# Altium footprint library HAKATAYA.PcbLib: 227 footprints (part 9 of 15)
Each footprint in its own frame and in the unit in brackets; x right, y up, seen from the top. Pads: shape width x height; smd on the part's side, far side on the other; paste and mask are expansions set on the pad; w line width, h text height; cw(c..) or ccw(c..) is an arc to the next point about the centre after c.
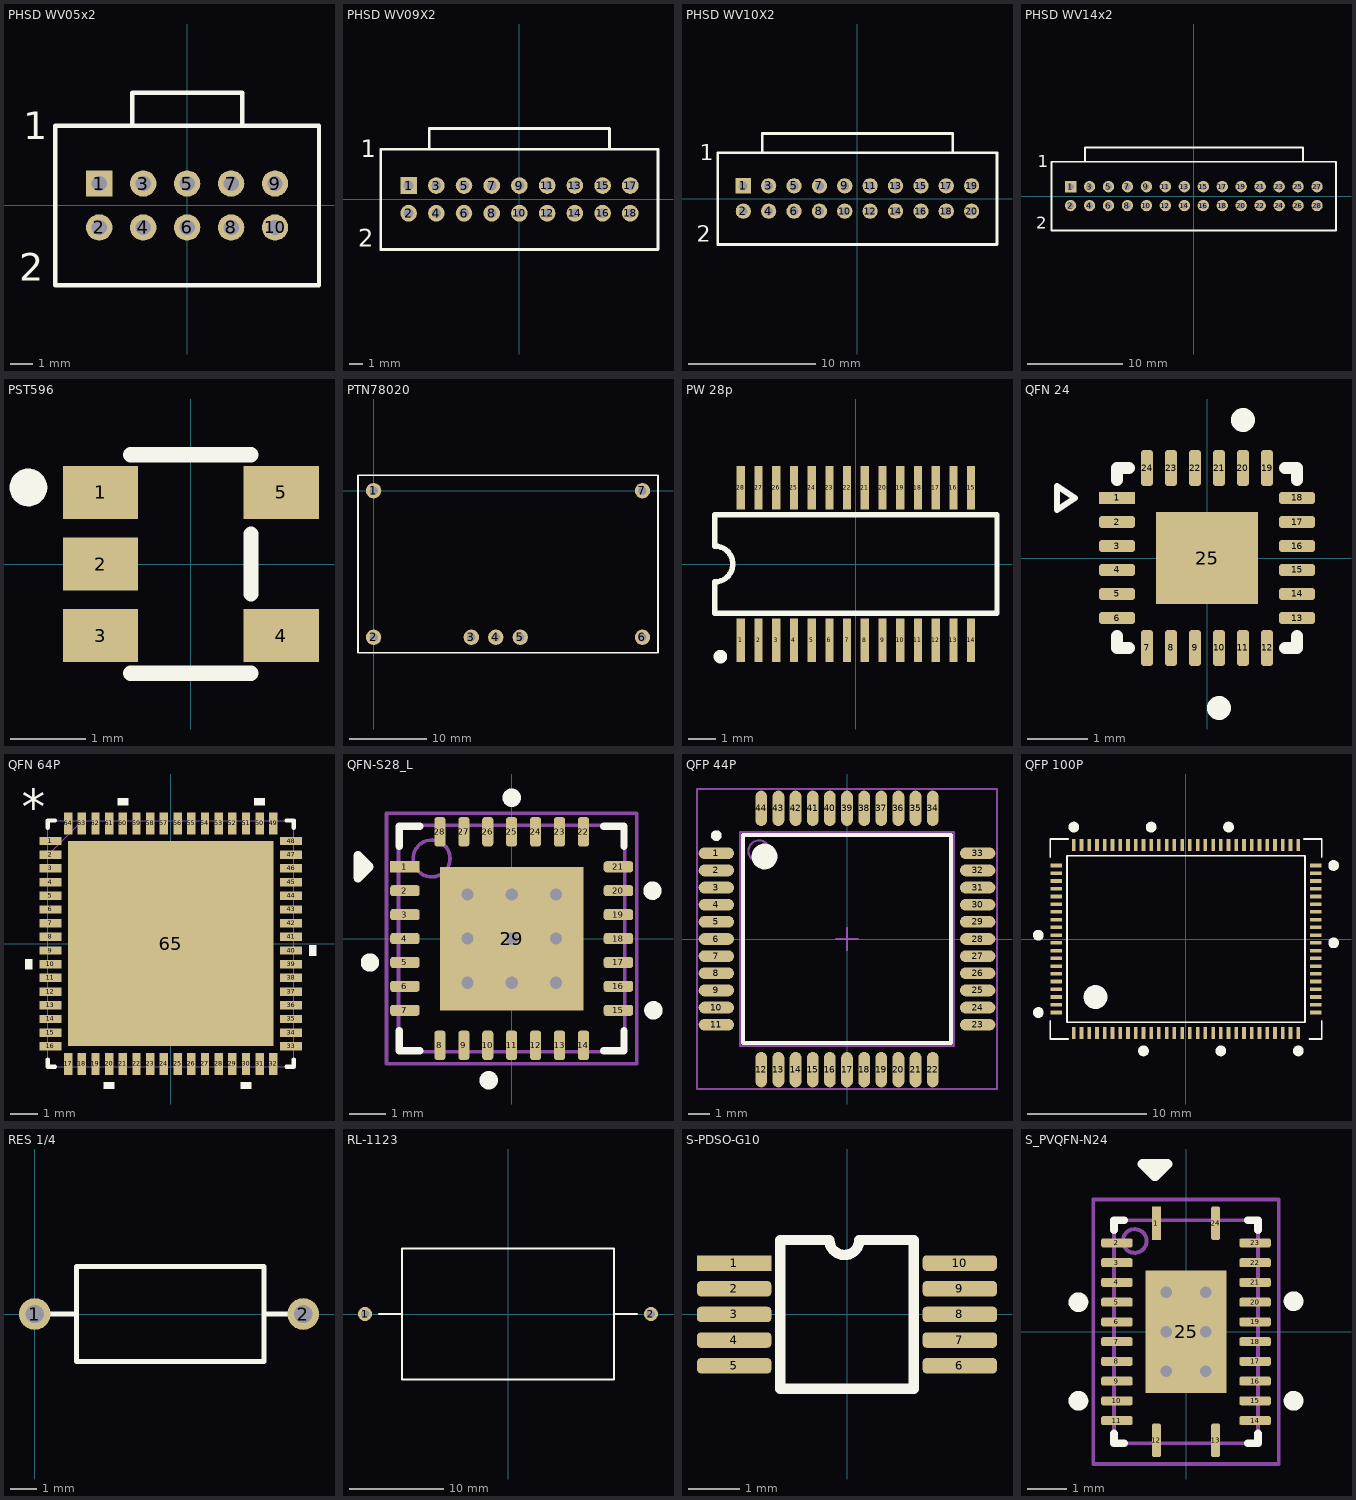
[diagram p8: the footprints below, top view; thin cyan lines are the x and y axes]

## PHSD WV05x2 [mm] "YOLINK PHSD CONNECTOR A2006-WVxxX2 2.00mm"
height 7.6
pads (10):
  rect 1.2x1.2 hole 0.7: 1(-4,1)
  round 1.2 hole 0.7: 2(-4,-1) 3(-2,1) 4(-2,-1) 5(0,1) 6(0,-1) 7(2,1) 8(2,-1) 9(4,1) 10(4,-1)
Top Overlay:
  lines w0.2: -2.5,3.625 -2.5,5.125 2.5,5.125 2.5,3.625 ; -6,-3.625 -6,3.625 6,3.625 6,-3.625 -6,-3.625
  text "2" at -7.65,-3.425 h1.27
  text "1" at -7.45,3.025 h1.27

## PHSD WV09X2 [mm] "YOLINK PHSD CONNECTOR A2006-WVxxX2 2.00mm"
height 7.6
pads (18):
  rect 1.2x1.2 hole 0.7: 1(-8,1)
  round 1.2 hole 0.7: 2(-8,-1) 3(-6,1) 4(-6,-1) 5(-4,1) 6(-4,-1) 7(-2,1) 8(-2,-1) 9(0,1) 10(0,-1) 11(2,1) 12(2,-1) 13(4,1) 14(4,-1) 15(6,1) 16(6,-1) 17(8,1) 18(8,-1)
Top Overlay:
  lines w0.2: -6.5,3.625 -6.5,5.125 6.5,5.125 6.5,3.625 ; -10,-3.625 -10,3.625 10,3.625 10,-3.625 -10,-3.625
  text "2" at -11.65,-3.425 h1.27
  text "1" at -11.45,3.025 h1.27

## PHSD WV10X2 [mm] "YOLINK PHSD CONNECTOR A2006-WVxxX2 2.00mm"
height 7.6
pads (20):
  rect 1.2x1.2 hole 0.7: 1(-9,1)
  round 1.2 hole 0.7: 2(-9,-1) 3(-7,1) 4(-7,-1) 5(-5,1) 6(-5,-1) 7(-3,1) 8(-3,-1) 9(-1,1) 10(-1,-1) 11(1,1) 12(1,-1) 13(3,1) 14(3,-1) 15(5,1) 16(5,-1) 17(7,1) 18(7,-1) 19(9,1) 20(9,-1)
Top Overlay:
  lines w0.2: -7.5,3.625 -7.5,5.125 7.5,5.125 7.5,3.625 ; -11,-3.625 -11,3.625 11,3.625 11,-3.625 -11,-3.625
  text "2" at -12.65,-3.425 h1.27
  text "1" at -12.45,3.025 h1.27

## PHSD WV14x2 [mm] "YOLINK PHSD CONNECTOR A2006-WVxxX2 2.00mm"
height 7.6
pads (28):
  rect 1.2x1.2 hole 0.7: 1(-13,1)
  round 1.2 hole 0.7: 2(-13,-1) 3(-11,1) 4(-11,-1) 5(-9,1) 6(-9,-1) 7(-7,1) 8(-7,-1) 9(-5,1) 10(-5,-1) 11(-3,1) 12(-3,-1) 13(-1,1) 14(-1,-1) 15(1,1) 16(1,-1) 17(3,1) 18(3,-1) 19(5,1) 20(5,-1) 21(7,1) 22(7,-1) 23(9,1) 24(9,-1) 25(11,1) 26(11,-1) 27(13,1) 28(13,-1)
Top Overlay:
  lines w0.2: -11.5,3.625 -11.5,5.125 11.5,5.125 11.5,3.625 ; -15,-3.625 15,-3.625 15,3.625 -15,3.625 -15,-3.625
  text "1" at -16.45,3.025 h1.27
  text "2" at -16.65,-3.425 h1.27

## PST596 [mm] "MISUMI RESET IC"
height 1.15
pads (5):
  rect 1x0.7 smd: 1(-1.2,0.95) 2(-1.2,0) 3(-1.2,-0.95) 4(1.2,-0.95) 5(1.2,0.95)
Top Overlay:
  circle w0.25: c-2.157,1.016 r0.125
  lines w0.2: -0.8,-1.45 0.8,-1.45 ; -0.8,1.45 0.8,1.45 ; 0.8,-0.4 0.8,0.4

## PTN78020 [mm] "REGURATOR Ti PTN78020W"
height 9
pads (7):
  round 2 hole 1.1: 1(0,0) 2(0,-19.05) 3(12.7,-19.05) 4(15.88,-19.05) 5(19.06,-19.05) 6(34.94,-19.05) 7(34.94,0)
Top Overlay:
  lines w0.2: -2.03,-21.08 36.96,-21.08 36.96,2.03 -2.03,2.03 -2.03,-21.08

## PW 28p [mm] "pitch 0.65mm TI"
pads (28):
  rect 0.3x1.6 smd: 1(-4.225,-2.8) 2(-3.575,-2.8) 3(-2.925,-2.8) 4(-2.275,-2.8) 5(-1.625,-2.8) 6(-0.975,-2.8) 7(-0.325,-2.8) 8(0.325,-2.8) 9(0.975,-2.8) 10(1.625,-2.8) 11(2.275,-2.8) 12(2.925,-2.8) 13(3.575,-2.8) 14(4.225,-2.8) 15(4.225,2.8) 16(3.575,2.8) 17(2.925,2.8) 18(2.275,2.8) 19(1.625,2.8) 20(0.975,2.8) 21(0.325,2.8) 22(-0.325,2.8) 23(-0.975,2.8) 24(-1.625,2.8) 25(-2.275,2.8) 26(-2.925,2.8) 27(-3.575,2.8) 28(-4.225,2.8)
Top Overlay:
  circle w0.25: c-4.975,-3.4 r0.125
  lines w0.2: -5.175,-1.8 5.175,-1.8 5.175,1.8 -5.175,1.8 -5.175,0.658 cw(c-5.175,0) -5.175,-0.658 -5.175,-1.8

## QFN 24 [mm] "pitch 0.4mm"
pads (25):
  rect 0.6x0.2 smd: 1(-1.5,1)
  rrect50% 0.6x0.2 smd: 2(-1.5,0.6) 3(-1.5,0.2) 4(-1.5,-0.2) 5(-1.5,-0.6) 6(-1.5,-1) 13(1.5,-1) 14(1.5,-0.6) 15(1.5,-0.2) 16(1.5,0.2) 17(1.5,0.6) 18(1.5,1)
  rrect50% 0.2x0.6 smd: 7(-1,-1.5) 8(-0.6,-1.5) 9(-0.2,-1.5) 10(0.2,-1.5) 11(0.6,-1.5) 12(1,-1.5) 19(1,1.5) 20(0.6,1.5) 21(0.2,1.5) 22(-0.2,1.5) 23(-0.6,1.5) 24(-1,1.5)
  rect 1.7x1.54 smd: 25(0,0)
Top Overlay:
  circle w0.2: c0.2,-2.5 r0.1
  circle w0.2: c0.6,2.3 r0.1
  lines w0.1: -2.5,0.8 -2.2,1 -2.5,1.2 -2.5,0.8
  lines w0.2: -1.5,-1.3 -1.5,-1.5 -1.3,-1.5 ; -1.5,1.3 -1.5,1.5 -1.3,1.5 ; 1.3,-1.5 1.5,-1.5 1.5,-1.3 ; 1.3,1.5 1.5,1.5 1.5,1.3

## QFN 64P [mil] "9x9x1 mm, pitch0.5mm"
height 39.37
pads (65):
  rect 32x12 smd mask+5: 1(-173,147.64) 2(-173,127.95) 3(-173,108.27) 4(-173,88.58) 5(-173,68.9) 6(-173,49.21) 7(-173,29.53) 8(-173,9.84) 9(-173,-9.84) 10(-173,-29.53) 11(-173,-49.21) 12(-173,-68.9) 13(-173,-88.58) 14(-173,-108.27) 15(-173,-127.95) 16(-173,-147.64) 33(173,-147.64) 34(173,-127.95) 35(173,-108.27) 36(173,-88.58) 37(173,-68.9) 38(173,-49.21) 39(173,-29.53) 40(173,-9.84) 41(173,9.84) 42(173,29.53) 43(173,49.21) 44(173,68.9) 45(173,88.58) 46(173,108.27) 47(173,127.95) 48(173,147.64)
  rect 12x32 smd mask+5: 17(-147.64,-173) 18(-127.95,-173) 19(-108.27,-173) 20(-88.58,-173) 21(-68.9,-173) 22(-49.21,-173) 23(-29.53,-173) 24(-9.84,-173) 25(9.84,-173) 26(29.53,-173) 27(49.21,-173) 28(68.9,-173) 29(88.58,-173) 30(108.27,-173) 31(127.95,-173) 32(147.64,-173) 49(147.64,173) 50(127.95,173) 51(108.27,173) 52(88.58,173) 53(68.9,173) 54(49.21,173) 55(29.53,173) 56(9.84,173) 57(-9.84,173) 58(-29.53,173) 59(-49.21,173) 60(-68.9,173) 61(-88.58,173) 62(-108.27,173) 63(-127.95,173) 64(-147.64,173)
  rect 295x295 smd mask-147: 65(0,0)
Top Overlay:
  region: -61.4,199 -76.4,199 -76.4,209 -61.4,209
  region: 135.45,199 120.45,199 120.45,209 135.45,209
  region: 199,-2.34 209,-2.34 209,-17.34 199,-17.34
  region: 115.77,-199 100.77,-199 100.77,-209 115.77,-209
  region: -81.08,-199 -96.08,-199 -96.08,-209 -81.08,-209
  region: -199,-22.03 -209,-22.03 -209,-37.03 -199,-37.03
  lines w6: -177,-166.64 -177,-177 -166.64,-177 ; -177,166.64 -177,177 -166.64,177 ; 166.64,-177 177,-177 177,-166.64 ; 166.64,177 177,177 177,166.64
  text "*" at -214,172.48 h50
Mechanical 1:
  lines w0: -177,127 -127,177 ; -177,-177 -177,177 177,177 177,-177 -177,-177 ; -177,-153.64 -177,-141.64 -177,-153.64 ; -177,-133.95 -177,-121.95 -177,-133.95 ; -177,-114.27 -177,-102.27 -177,-114.27 ; -177,-94.58 -177,-82.58 -177,-94.58 ; -177,-74.9 -177,-62.9 -177,-74.9 ; -177,-55.21 -177,-43.21 -177,-55.21 ; -177,-35.53 -177,-23.53 -177,-35.53 ; -177,-15.84 -177,-3.84 -177,-15.84 ; -177,3.84 -177,15.84 -177,3.84 ; -177,23.53 -177,35.53 -177,23.53 ; -177,43.21 -177,55.21 -177,43.21 ; -177,62.9 -177,74.9 -177,62.9 ; -177,82.58 -177,94.58 -177,82.58 ; -177,102.27 -177,114.27 -177,102.27 ; -177,121.95 -177,133.95 -177,121.95 ; -177,141.64 -177,153.64 -177,141.64 ; -153.64,-177 -141.64,-177 -153.64,-177 ; -153.64,177 -141.64,177 -153.64,177 ; -133.95,-177 -121.95,-177 -133.95,-177 ; -133.95,177 -121.95,177 -133.95,177 ; -114.27,-177 -102.27,-177 -114.27,-177 ; -114.27,177 -102.27,177 -114.27,177 ; -94.58,-177 -82.58,-177 -94.58,-177 ; -94.58,177 -82.58,177 -94.58,177 ; -74.9,-177 -62.9,-177 -74.9,-177 ; -74.9,177 -62.9,177 -74.9,177 ; -55.21,-177 -43.21,-177 -55.21,-177 ; -55.21,177 -43.21,177 -55.21,177 ; -35.53,-177 -23.53,-177 -35.53,-177 ; -35.53,177 -23.53,177 -35.53,177 ; -15.84,-177 -3.84,-177 -15.84,-177 ; -15.84,177 -3.84,177 -15.84,177 ; 3.84,-177 15.84,-177 3.84,-177 ; 3.84,177 15.84,177 3.84,177 ; 23.53,-177 35.53,-177 23.53,-177 ; 23.53,177 35.53,177 23.53,177 ; 43.21,-177 55.21,-177 43.21,-177 ; 43.21,177 55.21,177 43.21,177 ; 62.9,-177 74.9,-177 62.9,-177 ; 62.9,177 74.9,177 62.9,177 ; 82.58,-177 94.58,-177 82.58,-177 ; 82.58,177 94.58,177 82.58,177 ; 102.27,-177 114.27,-177 102.27,-177 ; 102.27,177 114.27,177 102.27,177 ; 121.95,-177 133.95,-177 121.95,-177 ; 121.95,177 133.95,177 121.95,177 ; 141.64,-177 153.64,-177 141.64,-177 ; 141.64,177 153.64,177 141.64,177 ; 177,-153.64 177,-141.64 177,-153.64 ; 177,-133.95 177,-121.95 177,-133.95 ; 177,-114.27 177,-102.27 177,-114.27 ; 177,-94.58 177,-82.58 177,-94.58 ; 177,-74.9 177,-62.9 177,-74.9 ; 177,-55.21 177,-43.21 177,-55.21 ; 177,-35.53 177,-23.53 177,-35.53 ; 177,-15.84 177,-3.84 177,-15.84 ; 177,3.84 177,15.84 177,3.84 ; 177,23.53 177,35.53 177,23.53 ; 177,43.21 177,55.21 177,43.21 ; 177,62.9 177,74.9 177,62.9 ; 177,82.58 177,94.58 177,82.58 ; 177,102.27 177,114.27 177,102.27 ; 177,121.95 177,133.95 177,121.95 ; 177,141.64 177,153.64 177,141.64
  text "*" at -214,172.48 h50

## QFN-S28_L [mm] "MCP23017"
height 1
pads (29):
  rect 0.8x0.3 smd: 1(-2.9,1.95)
  rrect50% 0.8x0.3 smd: 2(-2.9,1.3) 3(-2.9,0.65) 4(-2.9,0) 5(-2.9,-0.65) 6(-2.9,-1.3) 7(-2.9,-1.95) 15(2.9,-1.95) 16(2.9,-1.3) 17(2.9,-0.65) 18(2.9,0) 19(2.9,0.65) 20(2.9,1.3) 21(2.9,1.95)
  rrect50% 0.3x0.8 smd: 8(-1.95,-2.9) 9(-1.3,-2.9) 10(-0.65,-2.9) 11(0,-2.9) 12(0.65,-2.9) 13(1.3,-2.9) 14(1.95,-2.9) 22(1.95,2.9) 23(1.3,2.9) 24(0.65,2.9) 25(0,2.9) 26(-0.65,2.9) 27(-1.3,2.9) 28(-1.95,2.9)
  rect 3.9x3.9 smd: 29(0,0)
via 1.2,-1.2 diameter 0.66 hole 0.33
via 0,-1.2 diameter 0.66 hole 0.33
via -1.2,-1.2 diameter 0.66 hole 0.33
via 1.2,0 diameter 0.66 hole 0.33
via 0,0 diameter 0.66 hole 0.33
via -1.2,0 diameter 0.66 hole 0.33
via 1.2,1.2 diameter 0.66 hole 0.33
via 0,1.2 diameter 0.66 hole 0.33
via -1.2,1.2 diameter 0.66 hole 0.33
Top Overlay:
  circle w0.25: c-3.85,-0.65 r0.125
  circle w0.25: c-0.625,-3.85 r0.125
  circle w0.25: c3.85,-1.95 r0.125
  circle w0.25: c3.825,1.3 r0.125
  circle w0.25: c0,3.825 r0.125
  lines w0.2: -3.05,-2.5 -3.05,-3.05 -2.5,-3.05 ; -3.05,2.5 -3.05,3.05 -2.5,3.05 ; 2.5,-3.05 3.05,-3.05 3.05,-2.5 ; 2.5,3.05 3.05,3.05 3.05,2.5
  lines w0.254: -4.175,2.25 -4.175,1.65 -3.875,1.95 -4.15,2.225
Mechanical 13:
  circle w0.1: c-2.175,2.175 r0.5
  lines w0.1: -3.075,-3.075 3.075,-3.075 3.075,3.075 -3.075,3.075 -3.075,-3.075
Mechanical 15:
  lines w0.1: -0.5,0 0.5,0 ; 0,-0.5 0,0.5 ; -3.4,-3.4 3.4,-3.4 3.4,3.4 -3.4,3.4 -3.4,-3.4
3D body: height 1, standoff 0, extent -3.075,-3.075 3.075,3.075

## QFP 44P [mm] "0.8mm PITCH, 10mm BODY, SQR"
pads (44):
  oval 1.65x0.55 smd: 1(-6.1,4) 2(-6.1,3.2) 3(-6.1,2.4) 4(-6.1,1.6) 5(-6.1,0.8) 6(-6.1,0) 7(-6.1,-0.8) 8(-6.1,-1.6) 9(-6.1,-2.4) 10(-6.1,-3.2) 11(-6.1,-4) 23(6.1,-4) 24(6.1,-3.2) 25(6.1,-2.4) 26(6.1,-1.6) 27(6.1,-0.8) 28(6.1,0) 29(6.1,0.8) 30(6.1,1.6) 31(6.1,2.4) 32(6.1,3.2) 33(6.1,4)
  oval 0.55x1.65 smd: 12(-4,-6.1) 13(-3.2,-6.1) 14(-2.4,-6.1) 15(-1.6,-6.1) 16(-0.8,-6.1) 17(0,-6.1) 18(0.8,-6.1) 19(1.6,-6.1) 20(2.4,-6.1) 21(3.2,-6.1) 22(4,-6.1) 34(4,6.1) 35(3.2,6.1) 36(2.4,6.1) 37(1.6,6.1) 38(0.8,6.1) 39(0,6.1) 40(-0.8,6.1) 41(-1.6,6.1) 42(-2.4,6.1) 43(-3.2,6.1) 44(-4,6.1)
Top Overlay:
  circle w0.6: c-3.85,3.85 r0.3
  circle w0.25: c-6.1,4.825 r0.125
  lines w0.2: -4.85,-4.85 4.85,-4.85 4.85,4.85 -4.85,4.85 -4.85,-4.85
Mechanical 13:
  circle w0.1: c-4.1,4.1 r0.5
  lines w0.1: -5,-5 5,-5 5,5 -5,5 -5,-5
Mechanical 15:
  lines w0.1: -0.5,0 0.5,0 ; 0,-0.5 0,0.5 ; -7,-7 7,-7 7,7 -7,7 -7,-7
3D body: height 2.35, standoff 0, extent -5,-5 5,5

## QFP 100P [mm] "14x20 / pitch 0.65"
height 3
pads (100):
  rect 0.305x1 smd mask+0.127: 1(-9.425,-7.9) 2(-8.775,-7.9) 3(-8.125,-7.9) 4(-7.475,-7.9) 5(-6.825,-7.9) 6(-6.175,-7.9) 7(-5.525,-7.9) 8(-4.875,-7.9) 9(-4.225,-7.9) 10(-3.575,-7.9) 11(-2.925,-7.9) 12(-2.275,-7.9) 13(-1.625,-7.9) 14(-0.975,-7.9) 15(-0.325,-7.9) 16(0.325,-7.9) 17(0.975,-7.9) 18(1.625,-7.9) 19(2.275,-7.9) 20(2.925,-7.9) 21(3.575,-7.9) 22(4.225,-7.9) 23(4.875,-7.9) 24(5.525,-7.9) 25(6.175,-7.9) 26(6.825,-7.9) 27(7.475,-7.9) 28(8.125,-7.9) 29(8.775,-7.9) 30(9.425,-7.9) 51(9.425,7.9) 52(8.775,7.9) 53(8.125,7.9) 54(7.475,7.9) 55(6.825,7.9) 56(6.175,7.9) 57(5.525,7.9) 58(4.875,7.9) 59(4.225,7.9) 60(3.575,7.9) 61(2.925,7.9) 62(2.275,7.9) 63(1.625,7.9) 64(0.975,7.9) 65(0.325,7.9) 66(-0.325,7.9) 67(-0.975,7.9) 68(-1.625,7.9) 69(-2.275,7.9) 70(-2.925,7.9) 71(-3.575,7.9) 72(-4.225,7.9) 73(-4.875,7.9) 74(-5.525,7.9) 75(-6.175,7.9) 76(-6.825,7.9) 77(-7.475,7.9) 78(-8.125,7.9) 79(-8.775,7.9) 80(-9.425,7.9)
  rect 1x0.305 smd mask+0.127: 31(10.9,-6.175) 32(10.9,-5.525) 33(10.9,-4.875) 34(10.9,-4.225) 35(10.9,-3.575) 36(10.9,-2.925) 37(10.9,-2.275) 38(10.9,-1.625) 39(10.9,-0.975) 40(10.9,-0.325) 41(10.9,0.325) 42(10.9,0.975) 43(10.9,1.625) 44(10.9,2.275) 45(10.9,2.925) 46(10.9,3.575) 47(10.9,4.225) 48(10.9,4.875) 49(10.9,5.525) 50(10.9,6.175) 81(-10.9,6.175) 82(-10.9,5.525) 83(-10.9,4.875) 84(-10.9,4.225) 85(-10.9,3.575) 86(-10.9,2.925) 87(-10.9,2.275) 88(-10.9,1.625) 89(-10.9,0.975) 90(-10.9,0.325) 91(-10.9,-0.325) 92(-10.9,-0.975) 93(-10.9,-1.625) 94(-10.9,-2.275) 95(-10.9,-2.925) 96(-10.9,-3.575) 97(-10.9,-4.225) 98(-10.9,-4.875) 99(-10.9,-5.525) 100(-10.9,-6.175)
Top Overlay:
  circle w1: c-7.6,-4.875 r0.5
  circle w0.5: c12.4,6.175 r0.2
  circle w0.5: c12.4,-0.325 r0.2
  circle w0.5: c-12.4,-6.175 r0.2
  circle w0.5: c-12.4,0.325 r0.2
  circle w0.5: c-9.425,9.4 r0.2
  circle w0.5: c-2.925,9.4 r0.2
  circle w0.5: c3.575,9.4 r0.2
  circle w0.5: c9.425,-9.4 r0.2
  circle w0.5: c2.925,-9.4 r0.2
  circle w0.5: c-3.575,-9.4 r0.2
  lines w0.152: -11.4,-6.9 -11.4,-8.4 -9.9,-8.4 ; -11.4,6.9 -11.4,8.4 -9.9,8.4 ; 9.9,8.4 11.4,8.4 11.4,6.9 ; 10.375,-8.4 11.375,-8.4 ; 11.4,-8.4 11.4,-6.9 ; -10,-7 10,-7 10,7 -10,7 -10,-7

## RES 1/4 [mm] "Resitor Read 1/4 - 1/2W"
height 3.5
pads (2):
  round 1.2 hole 0.7: 1(0,0) 2(10.16,0)
Top Overlay:
  lines w0.2: 0,0 1.58,0 ; 8.68,0 10.16,0 ; 1.58,-1.8 8.68,-1.8 8.68,1.8 1.58,1.8 1.58,-1.8

## RL-1123 [mm]
height 13.97
pads (2):
  round 1.5 hole 0.9: 1(-15.24,0) 2(15.24,0)
Top Overlay:
  lines w0.2: -13.74,0 -11.315,0 ; 11.315,0 13.74,0 ; -11.315,0 -11.315,7 11.315,7 11.315,-7 -11.315,-7 -11.315,0

## S-PDSO-G10 [mm] "1.27mm Pitch, Body 3 x 4.9mm"
height 1.1
pads (10):
  rect 1.45x0.3 smd: 1(-2.2,1)
  rrect50% 1.45x0.3 smd: 2(-2.2,0.5) 3(-2.2,0) 4(-2.2,-0.5) 5(-2.2,-1) 6(2.2,-1) 7(2.2,-0.5) 8(2.2,0) 9(2.2,0.5) 10(2.2,1)
Top Overlay:
  lines w0.2: 0.24,1.446 cw(c-0.051,1.45) -0.343,1.45 -1.3,1.45 -1.3,-1.45 1.3,-1.45 1.3,1.45 0.24,1.45

## S_PVQFN-N24 [mm] "BQ24171"
height 1
pads (25):
  rect 0.23x0.85 smd: 1(-0.75,2.75)
  rrect50% 0.8x0.23 smd: 2(-1.75,2.25) 3(-1.75,1.75) 4(-1.75,1.25) 5(-1.75,0.75) 6(-1.75,0.25) 7(-1.75,-0.25) 8(-1.75,-0.75) 9(-1.75,-1.25) 10(-1.75,-1.75) 11(-1.75,-2.25) 14(1.75,-2.25) 15(1.75,-1.75) 16(1.75,-1.25) 17(1.75,-0.75) 18(1.75,-0.25) 19(1.75,0.25) 20(1.75,0.75) 21(1.75,1.25) 22(1.75,1.75) 23(1.75,2.25)
  rrect50% 0.23x0.85 smd: 12(-0.75,-2.75) 13(0.75,-2.75) 24(0.75,2.75)
  rect 2.05x3.1 smd: 25(0,0)
via 0.5,-1 diameter 0.4 hole 0.3
via -0.5,-1 diameter 0.4 hole 0.3
via 0.5,0 diameter 0.4 hole 0.3
via -0.5,0 diameter 0.4 hole 0.3
via 0.5,1 diameter 0.4 hole 0.3
via -0.5,1 diameter 0.4 hole 0.3
Top Overlay:
  circle w0.25: c-2.725,-1.75 r0.125
  circle w0.25: c-2.725,0.75 r0.125
  circle w0.25: c2.725,-1.75 r0.125
  circle w0.25: c2.725,0.775 r0.125
  lines w0.2: -1.825,-2.575 -1.825,-2.825 -1.575,-2.825 ; -1.825,2.575 -1.825,2.825 -1.575,2.825 ; 1.575,-2.825 1.825,-2.825 1.825,-2.575 ; 1.575,2.825 1.825,2.825 1.825,2.575
  lines w0.254: -0.8,3.95 -1.1,4.25 -0.475,4.25 -0.775,3.95
Mechanical 13:
  circle w0.1: c-1.3,2.3 r0.3
  lines w0.1: -1.825,-2.825 1.825,-2.825 1.825,2.825 -1.825,2.825 -1.825,-2.825
Mechanical 15:
  lines w0.1: -0.5,0 0.5,0 ; 0,-0.5 0,0.5 ; -2.35,-3.35 2.35,-3.35 2.35,3.35 -2.35,3.35 -2.35,-3.35
3D body: height 1, standoff 0, extent -1.825,-2.825 1.825,2.825